# Altium integrated library ON Semi Zener Diodes.IntLib: 1366 symbols (part 5 of 29)
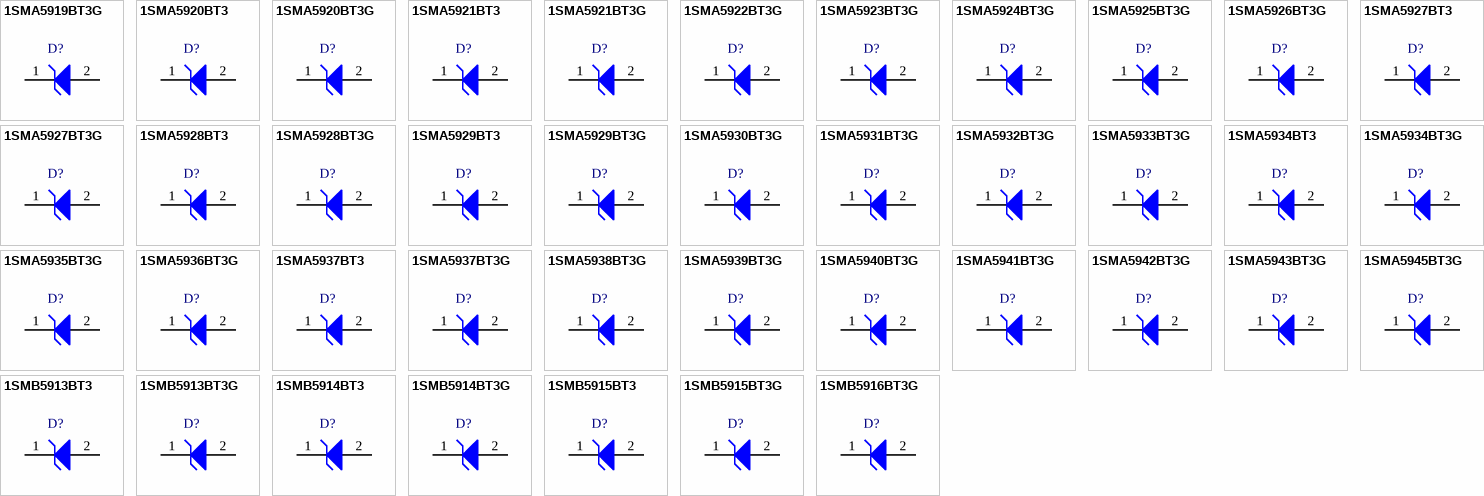
[diagram p48: symbols 1SMA5919BT3G to 1SMB5916BT3G]

## 1SMA5936BT3G
designator D?
1.5 W Zener Voltage Regulator, 2-Pin SMA, Pb-Free, Tape and Reel; Manufacturer: On Semiconductor; PartNumber: 1SMA5936BT3G; VZ Typ (V): 30; DatasheetVersion: Rev. 8; PackageVersion: Rev. F, 11/2008; PackageReference: SMA-2-403D-02_F; PackageDescription: 2-Pin Small Molded Package, J-Bend Lead, Body 2.605 x 4.315 mm; Supplier 1: Digi-Key; Supplier Part Number 1: 1SMA5936BT3GOSTR-ND; Supplier 2: Digi-Key; Supplier Part Number 2: 1SMA5936BT3GOSCT-ND; Supplier 3: Digi-Key; Supplier Part Number 3: 1SMA5936BT3GOSDKR-ND; Supplier 4: Farnell; Supplier Part Number 4: 1431153; Supplier 5: Farnell; Supplier Part Number 5: 1431153RL; Supplier 6: Newark; Supplier Part Number 6: 71J9200; Supplier 7: Mouser; Supplier Part Number 7: 863-1SMA5936BT3G; Packing: Tape and Reel; RoHS: Pb-Free; Mounting Technology: Surface Mount; ComponentLink1Description: Manufacturer URL; ComponentLink1URL: http://www.onsemi.com/; ComponentLink2Description: Datasheet; ComponentLink2URL: http://www.onsemi.com/pub_link/Collateral/1SMA5913BT3-D.PDF; ComponentLink3Description: Package Specification; ComponentLink3URL: http://www.onsemi.com/pub_link/Collateral/1SMA5913BT3-D.PDF
footprint ONSC-SMA-2-403D-02_F_V (Molded, 2-Leads, Body 4.32x2.6mm)
pins: 1 K, 2 A

## 1SMA5937BT3
designator D?
1.5 W Zener Voltage Regulator, 2-Pin SMA, Tape and Reel; Manufacturer: On Semiconductor; PartNumber: 1SMA5937BT3; VZ Typ (V): 33; DatasheetVersion: Rev. 8; PackageVersion: Rev. F, 11/2008; PackageReference: SMA-2-403D-02_F; PackageDescription: 2-Pin Small Molded Package, J-Bend Lead, Body 2.605 x 4.315 mm; Packing: Tape and Reel; Mounting Technology: Surface Mount; ComponentLink1Description: Manufacturer URL; ComponentLink1URL: http://www.onsemi.com/; ComponentLink2Description: Datasheet; ComponentLink2URL: http://www.onsemi.com/pub_link/Collateral/1SMA5913BT3-D.PDF; ComponentLink3Description: Package Specification; ComponentLink3URL: http://www.onsemi.com/pub_link/Collateral/1SMA5913BT3-D.PDF
footprint ONSC-SMA-2-403D-02_F_V (Molded, 2-Leads, Body 4.32x2.6mm)
pins: 1 K, 2 A

## 1SMA5937BT3G
designator D?
1.5 W Zener Voltage Regulator, 2-Pin SMA, Pb-Free, Tape and Reel; Manufacturer: On Semiconductor; PartNumber: 1SMA5937BT3G; VZ Typ (V): 33; DatasheetVersion: Rev. 8; PackageVersion: Rev. F, 11/2008; PackageReference: SMA-2-403D-02_F; PackageDescription: 2-Pin Small Molded Package, J-Bend Lead, Body 2.605 x 4.315 mm; Supplier 1: Digi-Key; Supplier Part Number 1: 1SMA5937BT3GOSTR-ND; Supplier 2: Digi-Key; Supplier Part Number 2: 1SMA5937BT3GOSCT-ND; Supplier 3: Digi-Key; Supplier Part Number 3: 1SMA5937BT3GOSDKR-ND; Supplier 4: Farnell; Supplier Part Number 4: 1431154RL; Supplier 5: Farnell; Supplier Part Number 5: 1431154; Supplier 6: Newark; Supplier Part Number 6: 71J9201; Supplier 7: Mouser; Supplier Part Number 7: 863-1SMA5937BT3G; Packing: Tape and Reel; RoHS: Pb-Free; Mounting Technology: Surface Mount; ComponentLink1Description: Manufacturer URL; ComponentLink1URL: http://www.onsemi.com/; ComponentLink2Description: Datasheet; ComponentLink2URL: http://www.onsemi.com/pub_link/Collateral/1SMA5913BT3-D.PDF; ComponentLink3Description: Package Specification; ComponentLink3URL: http://www.onsemi.com/pub_link/Collateral/1SMA5913BT3-D.PDF
footprint ONSC-SMA-2-403D-02_F_V (Molded, 2-Leads, Body 4.32x2.6mm)
pins: 1 K, 2 A

## 1SMA5938BT3G
designator D?
1.5 W Zener Voltage Regulator, 2-Pin SMA, Pb-Free, Tape and Reel; Manufacturer: On Semiconductor; PartNumber: 1SMA5938BT3G; VZ Typ (V): 36; DatasheetVersion: Rev. 8; PackageVersion: Rev. F, 11/2008; PackageReference: SMA-2-403D-02_F; PackageDescription: 2-Pin Small Molded Package, J-Bend Lead, Body 2.605 x 4.315 mm; Supplier 1: Digi-Key; Supplier Part Number 1: 1SMA5938BT3GOSTR-ND; Supplier 2: Digi-Key; Supplier Part Number 2: 1SMA5938BT3GOSCT-ND; Supplier 3: Digi-Key; Supplier Part Number 3: 1SMA5938BT3GOSDKR-ND; Supplier 4: Farnell; Supplier Part Number 4: 1651575RL; Supplier 5: Farnell; Supplier Part Number 5: 1651575; Supplier 6: Newark; Supplier Part Number 6: 26K5260; Supplier 7: Mouser; Supplier Part Number 7: 863-1SMA5938BT3G; Packing: Tape and Reel; RoHS: Pb-Free; Mounting Technology: Surface Mount; ComponentLink1Description: Manufacturer URL; ComponentLink1URL: http://www.onsemi.com/; ComponentLink2Description: Datasheet; ComponentLink2URL: http://www.onsemi.com/pub_link/Collateral/1SMA5913BT3-D.PDF; ComponentLink3Description: Package Specification; ComponentLink3URL: http://www.onsemi.com/pub_link/Collateral/1SMA5913BT3-D.PDF
footprint ONSC-SMA-2-403D-02_F_V (Molded, 2-Leads, Body 4.32x2.6mm)
pins: 1 K, 2 A

## 1SMA5939BT3G
designator D?
1.5 W Zener Voltage Regulator, 2-Pin SMA, Pb-Free, Tape and Reel; Manufacturer: On Semiconductor; PartNumber: 1SMA5939BT3G; VZ Typ (V): 39; DatasheetVersion: Rev. 8; PackageVersion: Rev. F, 11/2008; PackageReference: SMA-2-403D-02_F; PackageDescription: 2-Pin Small Molded Package, J-Bend Lead, Body 2.605 x 4.315 mm; Supplier 1: Digi-Key; Supplier Part Number 1: 1SMA5939BT3GOSTR-ND; Supplier 2: Digi-Key; Supplier Part Number 2: 1SMA5939BT3GOSCT-ND; Supplier 3: Digi-Key; Supplier Part Number 3: 1SMA5939BT3GOSDKR-ND; Supplier 4: Farnell; Supplier Part Number 4: 1324195; Supplier 5: Newark; Supplier Part Number 5: 83K8786; Supplier 6: Mouser; Supplier Part Number 6: 863-1SMA5939BT3G; Packing: Tape and Reel; RoHS: Pb-Free; Mounting Technology: Surface Mount; ComponentLink1Description: Manufacturer URL; ComponentLink1URL: http://www.onsemi.com/; ComponentLink2Description: Datasheet; ComponentLink2URL: http://www.onsemi.com/pub_link/Collateral/1SMA5913BT3-D.PDF; ComponentLink3Description: Package Specification; ComponentLink3URL: http://www.onsemi.com/pub_link/Collateral/1SMA5913BT3-D.PDF
footprint ONSC-SMA-2-403D-02_F_V (Molded, 2-Leads, Body 4.32x2.6mm)
pins: 1 K, 2 A

## 1SMA5940BT3G
designator D?
1.5 W Zener Voltage Regulator, 2-Pin SMA, Pb-Free, Tape and Reel; Manufacturer: On Semiconductor; PartNumber: 1SMA5940BT3G; VZ Typ (V): 43; DatasheetVersion: Rev. 8; PackageVersion: Rev. F, 11/2008; PackageReference: SMA-2-403D-02_F; PackageDescription: 2-Pin Small Molded Package, J-Bend Lead, Body 2.605 x 4.315 mm; Supplier 1: Digi-Key; Supplier Part Number 1: 1SMA5940BT3GOSTR-ND; Supplier 2: Digi-Key; Supplier Part Number 2: 1SMA5940BT3GOSCT-ND; Supplier 3: Digi-Key; Supplier Part Number 3: 1SMA5940BT3GOSDKR-ND; Supplier 4: Farnell; Supplier Part Number 4: 1887114; Supplier 5: Newark; Supplier Part Number 5: 09R9816; Supplier 6: Mouser; Supplier Part Number 6: 863-1SMA5940BT3G; Packing: Tape and Reel; RoHS: Pb-Free; Mounting Technology: Surface Mount; ComponentLink1Description: Manufacturer URL; ComponentLink1URL: http://www.onsemi.com/; ComponentLink2Description: Datasheet; ComponentLink2URL: http://www.onsemi.com/pub_link/Collateral/1SMA5913BT3-D.PDF; ComponentLink3Description: Package Specification; ComponentLink3URL: http://www.onsemi.com/pub_link/Collateral/1SMA5913BT3-D.PDF
footprint ONSC-SMA-2-403D-02_F_V (Molded, 2-Leads, Body 4.32x2.6mm)
pins: 1 K, 2 A

## 1SMA5941BT3G
designator D?
1.5 W Zener Voltage Regulator, 2-Pin SMA, Pb-Free, Tape and Reel; Manufacturer: On Semiconductor; PartNumber: 1SMA5941BT3G; VZ Typ (V): 47; DatasheetVersion: Rev. 8; PackageVersion: Rev. F, 11/2008; PackageReference: SMA-2-403D-02_F; PackageDescription: 2-Pin Small Molded Package, J-Bend Lead, Body 2.605 x 4.315 mm; Supplier 1: Digi-Key; Supplier Part Number 1: 1SMA5941BT3GOSTR-ND; Supplier 2: Digi-Key; Supplier Part Number 2: 1SMA5941BT3GOSCT-ND; Supplier 3: Digi-Key; Supplier Part Number 3: 1SMA5941BT3GOSDKR-ND; Supplier 4: Newark; Supplier Part Number 4: 09R9817; Supplier 5: Newark; Supplier Part Number 5: 42K3075; Supplier 6: Mouser; Supplier Part Number 6: 863-1SMA5941BT3G; Packing: Tape and Reel; RoHS: Pb-Free; Mounting Technology: Surface Mount; ComponentLink1Description: Manufacturer URL; ComponentLink1URL: http://www.onsemi.com/; ComponentLink2Description: Datasheet; ComponentLink2URL: http://www.onsemi.com/pub_link/Collateral/1SMA5913BT3-D.PDF; ComponentLink3Description: Package Specification; ComponentLink3URL: http://www.onsemi.com/pub_link/Collateral/1SMA5913BT3-D.PDF
footprint ONSC-SMA-2-403D-02_F_V (Molded, 2-Leads, Body 4.32x2.6mm)
pins: 1 K, 2 A

## 1SMA5942BT3G
designator D?
1.5 W Zener Voltage Regulator, 2-Pin SMA, Pb-Free, Tape and Reel; Manufacturer: On Semiconductor; PartNumber: 1SMA5942BT3G; VZ Typ (V): 51; DatasheetVersion: Rev. 8; PackageVersion: Rev. F, 11/2008; PackageReference: SMA-2-403D-02_F; PackageDescription: 2-Pin Small Molded Package, J-Bend Lead, Body 2.605 x 4.315 mm; Supplier 1: Digi-Key; Supplier Part Number 1: 1SMA5942BT3GOSTR-ND; Supplier 2: Digi-Key; Supplier Part Number 2: 1SMA5942BT3GOSCT-ND; Supplier 3: Digi-Key; Supplier Part Number 3: 1SMA5942BT3GOSDKR-ND; Supplier 4: Newark; Supplier Part Number 4: 42K3076; Supplier 5: Mouser; Supplier Part Number 5: 863-1SMA5942BT3G; Packing: Tape and Reel; RoHS: Pb-Free; Mounting Technology: Surface Mount; ComponentLink1Description: Manufacturer URL; ComponentLink1URL: http://www.onsemi.com/; ComponentLink2Description: Datasheet; ComponentLink2URL: http://www.onsemi.com/pub_link/Collateral/1SMA5913BT3-D.PDF; ComponentLink3Description: Package Specification; ComponentLink3URL: http://www.onsemi.com/pub_link/Collateral/1SMA5913BT3-D.PDF
footprint ONSC-SMA-2-403D-02_F_V (Molded, 2-Leads, Body 4.32x2.6mm)
pins: 1 K, 2 A

## 1SMA5943BT3G
designator D?
1.5 W Zener Voltage Regulator, 2-Pin SMA, Pb-Free, Tape and Reel; Manufacturer: On Semiconductor; PartNumber: 1SMA5943BT3G; VZ Typ (V): 56; DatasheetVersion: Rev. 8; PackageVersion: Rev. F, 11/2008; PackageReference: SMA-2-403D-02_F; PackageDescription: 2-Pin Small Molded Package, J-Bend Lead, Body 2.605 x 4.315 mm; Supplier 1: Digi-Key; Supplier Part Number 1: 1SMA5943BT3GOSTR-ND; Supplier 2: Digi-Key; Supplier Part Number 2: 1SMA5943BT3GOSCT-ND; Supplier 3: Digi-Key; Supplier Part Number 3: 1SMA5943BT3GOSDKR-ND; Supplier 4: Farnell; Supplier Part Number 4: 1147840; Supplier 5: Newark; Supplier Part Number 5: 45J2423; Supplier 6: Mouser; Supplier Part Number 6: 863-1SMA5943BT3G; Packing: Tape and Reel; RoHS: Pb-Free; Mounting Technology: Surface Mount; ComponentLink1Description: Manufacturer URL; ComponentLink1URL: http://www.onsemi.com/; ComponentLink2Description: Datasheet; ComponentLink2URL: http://www.onsemi.com/pub_link/Collateral/1SMA5913BT3-D.PDF; ComponentLink3Description: Package Specification; ComponentLink3URL: http://www.onsemi.com/pub_link/Collateral/1SMA5913BT3-D.PDF
footprint ONSC-SMA-2-403D-02_F_V (Molded, 2-Leads, Body 4.32x2.6mm)
pins: 1 K, 2 A

## 1SMA5945BT3G
designator D?
1.5 W Zener Voltage Regulator, 2-Pin SMA, Pb-Free, Tape and Reel; Manufacturer: On Semiconductor; PartNumber: 1SMA5945BT3G; VZ Typ (V): 68; DatasheetVersion: Rev. 8; PackageVersion: Rev. F, 11/2008; PackageReference: SMA-2-403D-02_F; PackageDescription: 2-Pin Small Molded Package, J-Bend Lead, Body 2.605 x 4.315 mm; Supplier 1: Digi-Key; Supplier Part Number 1: 1SMA5945BT3GOSTR-ND; Supplier 2: Digi-Key; Supplier Part Number 2: 1SMA5945BT3GOSCT-ND; Supplier 3: Digi-Key; Supplier Part Number 3: 1SMA5945BT3GOSDKR-ND; Supplier 4: Farnell; Supplier Part Number 4: 1364098; Supplier 5: Newark; Supplier Part Number 5: 26K5261; Supplier 6: Mouser; Supplier Part Number 6: 863-1SMA5945BT3G; Packing: Tape and Reel; RoHS: Pb-Free; Mounting Technology: Surface Mount; ComponentLink1Description: Manufacturer URL; ComponentLink1URL: http://www.onsemi.com/; ComponentLink2Description: Datasheet; ComponentLink2URL: http://www.onsemi.com/pub_link/Collateral/1SMA5913BT3-D.PDF; ComponentLink3Description: Package Specification; ComponentLink3URL: http://www.onsemi.com/pub_link/Collateral/1SMA5913BT3-D.PDF
footprint ONSC-SMA-2-403D-02_F_V (Molded, 2-Leads, Body 4.32x2.6mm)
pins: 1 K, 2 A

## 1SMB5913BT3
designator D?
3 W Zener Voltage Regulator, 2-Pin SMB, Tape and Reel; Manufacturer: On Semiconductor; PartNumber: 1SMB5913BT3; VZ Typ (V): 3.3; DatasheetVersion: Rev. 8; PackageVersion: Rev. H, 05/2011; PackageReference: SMB-2-403A-03_H; PackageDescription: 2-Pin Small Molded Package, J-Bend Lead, Body 4.33 x 3.625 mm; Supplier 1: Digi-Key; Supplier Part Number 1: 1SMB5913BT3OSCT-ND; Supplier 2: Digi-Key; Supplier Part Number 2: 1SMB5913BT3OSDKR-ND; Packing: Tape and Reel; Mounting Technology: Surface Mount; ComponentLink1Description: Manufacturer URL; ComponentLink1URL: http://www.onsemi.com/; ComponentLink2Description: Datasheet; ComponentLink2URL: http://www.onsemi.com/pub_link/Collateral/1SMB5913BT3-D.PDF; ComponentLink3Description: Package Specification; ComponentLink3URL: http://www.onsemi.com/pub_link/Collateral/1SMB5913BT3-D.PDF
footprint ONSC-SMB-2-403A-03_H_V (Molded, 2-Leads, Body 4.6x3.95mm)
pins: 1 K, 2 A

## 1SMB5913BT3G
designator D?
3 W Zener Voltage Regulator, 2-Pin SMB, Pb-Free, Tape and Reel; Manufacturer: On Semiconductor; PartNumber: 1SMB5913BT3G; VZ Typ (V): 3.3; DatasheetVersion: Rev. 8; PackageVersion: Rev. H, 05/2011; PackageReference: SMB-2-403A-03_H; PackageDescription: 2-Pin Small Molded Package, J-Bend Lead, Body 4.33 x 3.625 mm; Supplier 1: Digi-Key; Supplier Part Number 1: 1SMB5913BT3GOSTR-ND; Supplier 2: Digi-Key; Supplier Part Number 2: 1SMB5913BT3GOSCT-ND; Supplier 3: Digi-Key; Supplier Part Number 3: 1SMB5913BT3GOSDKR-ND; Supplier 4: Farnell; Supplier Part Number 4: 1431155RL; Supplier 5: Farnell; Supplier Part Number 5: 1431155; Supplier 6: Newark; Supplier Part Number 6: 88H5165; Supplier 7: Newark; Supplier Part Number 7: 02P5806; Supplier 8: Mouser; Supplier Part Number 8: 863-1SMB5913BT3G; Packing: Tape and Reel; RoHS: Pb-Free; Mounting Technology: Surface Mount; ComponentLink1Description: Manufacturer URL; ComponentLink1URL: http://www.onsemi.com/; ComponentLink2Description: Datasheet; ComponentLink2URL: http://www.onsemi.com/pub_link/Collateral/1SMB5913BT3-D.PDF; ComponentLink3Description: Package Specification; ComponentLink3URL: http://www.onsemi.com/pub_link/Collateral/1SMB5913BT3-D.PDF
footprint ONSC-SMB-2-403A-03_H_V (Molded, 2-Leads, Body 4.6x3.95mm)
pins: 1 K, 2 A

## 1SMB5914BT3
designator D?
3 W Zener Voltage Regulator, 2-Pin SMB, Tape and Reel; Manufacturer: On Semiconductor; PartNumber: 1SMB5914BT3; VZ Typ (V): 3.6; DatasheetVersion: Rev. 8; PackageVersion: Rev. H, 05/2011; PackageReference: SMB-2-403A-03_H; PackageDescription: 2-Pin Small Molded Package, J-Bend Lead, Body 4.33 x 3.625 mm; Supplier 1: Digi-Key; Supplier Part Number 1: 1SMB5914BT3OSCT-ND; Supplier 2: Digi-Key; Supplier Part Number 2: 1SMB5914BT3OSDKR-ND; Packing: Tape and Reel; Mounting Technology: Surface Mount; ComponentLink1Description: Manufacturer URL; ComponentLink1URL: http://www.onsemi.com/; ComponentLink2Description: Datasheet; ComponentLink2URL: http://www.onsemi.com/pub_link/Collateral/1SMB5913BT3-D.PDF; ComponentLink3Description: Package Specification; ComponentLink3URL: http://www.onsemi.com/pub_link/Collateral/1SMB5913BT3-D.PDF
footprint ONSC-SMB-2-403A-03_H_V (Molded, 2-Leads, Body 4.6x3.95mm)
pins: 1 K, 2 A

## 1SMB5914BT3G
designator D?
3 W Zener Voltage Regulator, 2-Pin SMB, Pb-Free, Tape and Reel; Manufacturer: On Semiconductor; PartNumber: 1SMB5914BT3G; VZ Typ (V): 3.6; DatasheetVersion: Rev. 8; PackageVersion: Rev. H, 05/2011; PackageReference: SMB-2-403A-03_H; PackageDescription: 2-Pin Small Molded Package, J-Bend Lead, Body 4.33 x 3.625 mm; Supplier 1: Digi-Key; Supplier Part Number 1: 1SMB5914BT3GOSTR-ND; Supplier 2: Digi-Key; Supplier Part Number 2: 1SMB5914BT3GOSCT-ND; Supplier 3: Digi-Key; Supplier Part Number 3: 1SMB5914BT3GOSDKR-ND; Supplier 4: Farnell; Supplier Part Number 4: 1431156; Supplier 5: Farnell; Supplier Part Number 5: 1431156RL; Supplier 6: Newark; Supplier Part Number 6: 71J9212; Supplier 7: Mouser; Supplier Part Number 7: 863-1SMB5914BT3G; Packing: Tape and Reel; RoHS: Pb-Free; Mounting Technology: Surface Mount; ComponentLink1Description: Manufacturer URL; ComponentLink1URL: http://www.onsemi.com/; ComponentLink2Description: Datasheet; ComponentLink2URL: http://www.onsemi.com/pub_link/Collateral/1SMB5913BT3-D.PDF; ComponentLink3Description: Package Specification; ComponentLink3URL: http://www.onsemi.com/pub_link/Collateral/1SMB5913BT3-D.PDF
footprint ONSC-SMB-2-403A-03_H_V (Molded, 2-Leads, Body 4.6x3.95mm)
pins: 1 K, 2 A

## 1SMB5915BT3
designator D?
3 W Zener Voltage Regulator, 2-Pin SMB, Tape and Reel; Manufacturer: On Semiconductor; PartNumber: 1SMB5915BT3; VZ Typ (V): 3.9; DatasheetVersion: Rev. 8; PackageVersion: Rev. H, 05/2011; PackageReference: SMB-2-403A-03_H; PackageDescription: 2-Pin Small Molded Package, J-Bend Lead, Body 4.33 x 3.625 mm; Supplier 1: Digi-Key; Supplier Part Number 1: 1SMB5915BT3OSCT-ND; Supplier 2: Digi-Key; Supplier Part Number 2: 1SMB5915BT3OSDKR-ND; Packing: Tape and Reel; Mounting Technology: Surface Mount; ComponentLink1Description: Manufacturer URL; ComponentLink1URL: http://www.onsemi.com/; ComponentLink2Description: Datasheet; ComponentLink2URL: http://www.onsemi.com/pub_link/Collateral/1SMB5913BT3-D.PDF; ComponentLink3Description: Package Specification; ComponentLink3URL: http://www.onsemi.com/pub_link/Collateral/1SMB5913BT3-D.PDF
footprint ONSC-SMB-2-403A-03_H_V (Molded, 2-Leads, Body 4.6x3.95mm)
pins: 1 K, 2 A

## 1SMB5915BT3G
designator D?
3 W Zener Voltage Regulator, 2-Pin SMB, Pb-Free, Tape and Reel; Manufacturer: On Semiconductor; PartNumber: 1SMB5915BT3G; VZ Typ (V): 3.9; DatasheetVersion: Rev. 8; PackageVersion: Rev. H, 05/2011; PackageReference: SMB-2-403A-03_H; PackageDescription: 2-Pin Small Molded Package, J-Bend Lead, Body 4.33 x 3.625 mm; Supplier 1: Digi-Key; Supplier Part Number 1: 1SMB5915BT3GOSTR-ND; Supplier 2: Digi-Key; Supplier Part Number 2: 1SMB5915BT3GOSCT-ND; Supplier 3: Digi-Key; Supplier Part Number 3: 1SMB5915BT3GOSDKR-ND; Supplier 4: Farnell; Supplier Part Number 4: 1431157; Supplier 5: Farnell; Supplier Part Number 5: 1431157RL; Supplier 6: Newark; Supplier Part Number 6: 71J9213; Supplier 7: Mouser; Supplier Part Number 7: 863-1SMB5915BT3G; Packing: Tape and Reel; RoHS: Pb-Free; Mounting Technology: Surface Mount; ComponentLink1Description: Manufacturer URL; ComponentLink1URL: http://www.onsemi.com/; ComponentLink2Description: Datasheet; ComponentLink2URL: http://www.onsemi.com/pub_link/Collateral/1SMB5913BT3-D.PDF; ComponentLink3Description: Package Specification; ComponentLink3URL: http://www.onsemi.com/pub_link/Collateral/1SMB5913BT3-D.PDF
footprint ONSC-SMB-2-403A-03_H_V (Molded, 2-Leads, Body 4.6x3.95mm)
pins: 1 K, 2 A

## 1SMB5916BT3G
designator D?
3 W Zener Voltage Regulator, 2-Pin SMB, Pb-Free, Tape and Reel; Manufacturer: On Semiconductor; PartNumber: 1SMB5916BT3G; VZ Typ (V): 4.3; DatasheetVersion: Rev. 8; PackageVersion: Rev. H, 05/2011; PackageReference: SMB-2-403A-03_H; PackageDescription: 2-Pin Small Molded Package, J-Bend Lead, Body 4.33 x 3.625 mm; Supplier 1: Digi-Key; Supplier Part Number 1: 1SMB5916BT3GOSTR-ND; Supplier 2: Digi-Key; Supplier Part Number 2: 1SMB5916BT3GOSCT-ND; Supplier 3: Digi-Key; Supplier Part Number 3: 1SMB5916BT3GOSDKR-ND; Supplier 4: Farnell; Supplier Part Number 4: 2101829; Supplier 5: Newark; Supplier Part Number 5: 71J9214; Supplier 6: Mouser; Supplier Part Number 6: 863-1SMB5916BT3G; Packing: Tape and Reel; RoHS: Pb-Free; Mounting Technology: Surface Mount; ComponentLink1Description: Manufacturer URL; ComponentLink1URL: http://www.onsemi.com/; ComponentLink2Description: Datasheet; ComponentLink2URL: http://www.onsemi.com/pub_link/Collateral/1SMB5913BT3-D.PDF; ComponentLink3Description: Package Specification; ComponentLink3URL: http://www.onsemi.com/pub_link/Collateral/1SMB5913BT3-D.PDF
footprint ONSC-SMB-2-403A-03_H_V (Molded, 2-Leads, Body 4.6x3.95mm)
pins: 1 K, 2 A

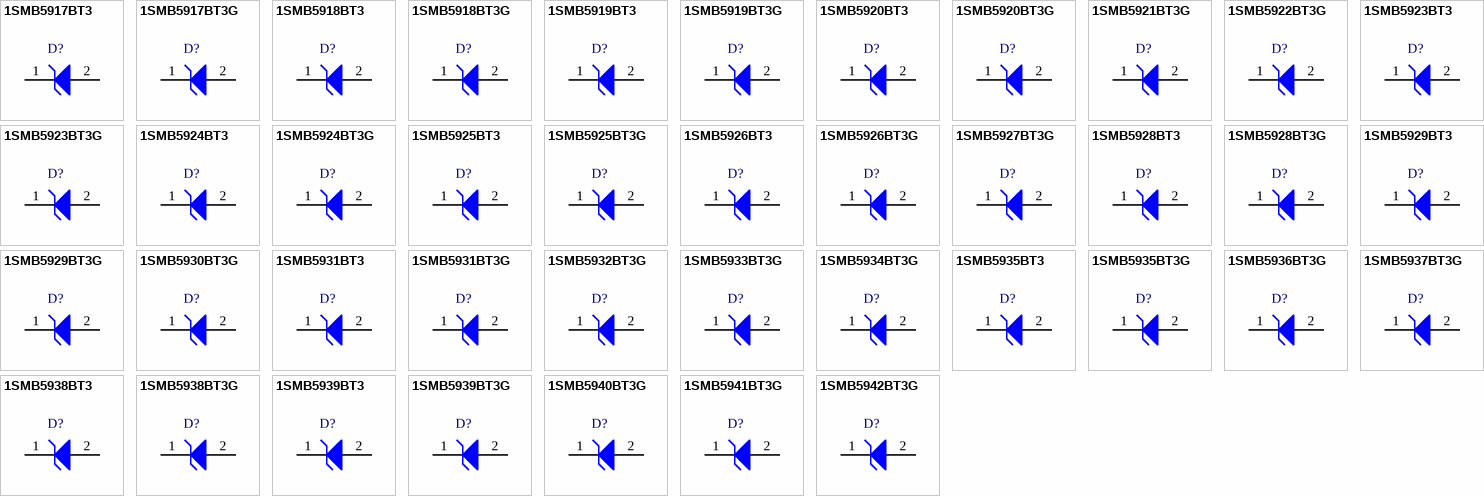
[diagram p5: symbols 1SMB5917BT3 to 1SMB5942BT3G]

## 1SMB5917BT3
designator D?
3 W Zener Voltage Regulator, 2-Pin SMB, Tape and Reel; Manufacturer: On Semiconductor; PartNumber: 1SMB5917BT3; VZ Typ (V): 4.7; DatasheetVersion: Rev. 8; PackageVersion: Rev. H, 05/2011; PackageReference: SMB-2-403A-03_H; PackageDescription: 2-Pin Small Molded Package, J-Bend Lead, Body 4.33 x 3.625 mm; Supplier 1: Digi-Key; Supplier Part Number 1: 1SMB5917BT3OSCT-ND; Supplier 2: Digi-Key; Supplier Part Number 2: 1SMB5917BT3OSDKR-ND; Packing: Tape and Reel; Mounting Technology: Surface Mount; ComponentLink1Description: Manufacturer URL; ComponentLink1URL: http://www.onsemi.com/; ComponentLink2Description: Datasheet; ComponentLink2URL: http://www.onsemi.com/pub_link/Collateral/1SMB5913BT3-D.PDF; ComponentLink3Description: Package Specification; ComponentLink3URL: http://www.onsemi.com/pub_link/Collateral/1SMB5913BT3-D.PDF
footprint ONSC-SMB-2-403A-03_H_V (Molded, 2-Leads, Body 4.6x3.95mm)
pins: 1 K, 2 A

## 1SMB5917BT3G
designator D?
3 W Zener Voltage Regulator, 2-Pin SMB, Pb-Free, Tape and Reel; Manufacturer: On Semiconductor; PartNumber: 1SMB5917BT3G; VZ Typ (V): 4.7; DatasheetVersion: Rev. 8; PackageVersion: Rev. H, 05/2011; PackageReference: SMB-2-403A-03_H; PackageDescription: 2-Pin Small Molded Package, J-Bend Lead, Body 4.33 x 3.625 mm; Supplier 1: Digi-Key; Supplier Part Number 1: 1SMB5917BT3GOSTR-ND; Supplier 2: Digi-Key; Supplier Part Number 2: 1SMB5917BT3GOSCT-ND; Supplier 3: Digi-Key; Supplier Part Number 3: 1SMB5917BT3GOSDKR-ND; Supplier 4: Farnell; Supplier Part Number 4: 1431159; Supplier 5: Farnell; Supplier Part Number 5: 1431159RL; Supplier 6: Newark; Supplier Part Number 6: 71J9215; Supplier 7: Mouser; Supplier Part Number 7: 863-1SMB5917BT3G; Packing: Tape and Reel; RoHS: Pb-Free; Mounting Technology: Surface Mount; ComponentLink1Description: Manufacturer URL; ComponentLink1URL: http://www.onsemi.com/; ComponentLink2Description: Datasheet; ComponentLink2URL: http://www.onsemi.com/pub_link/Collateral/1SMB5913BT3-D.PDF; ComponentLink3Description: Package Specification; ComponentLink3URL: http://www.onsemi.com/pub_link/Collateral/1SMB5913BT3-D.PDF
footprint ONSC-SMB-2-403A-03_H_V (Molded, 2-Leads, Body 4.6x3.95mm)
pins: 1 K, 2 A

## 1SMB5918BT3
designator D?
3 W Zener Voltage Regulator, 2-Pin SMB, Tape and Reel; Manufacturer: On Semiconductor; PartNumber: 1SMB5918BT3; VZ Typ (V): 5.1; DatasheetVersion: Rev. 8; PackageVersion: Rev. H, 05/2011; PackageReference: SMB-2-403A-03_H; PackageDescription: 2-Pin Small Molded Package, J-Bend Lead, Body 4.33 x 3.625 mm; Supplier 1: Digi-Key; Supplier Part Number 1: 1SMB5918BT3OSTR-ND; Supplier 2: Digi-Key; Supplier Part Number 2: 1SMB5918BT3OSCT-ND; Supplier 3: Digi-Key; Supplier Part Number 3: 1SMB5918BT3OSDKR-ND; Packing: Tape and Reel; Mounting Technology: Surface Mount; ComponentLink1Description: Manufacturer URL; ComponentLink1URL: http://www.onsemi.com/; ComponentLink2Description: Datasheet; ComponentLink2URL: http://www.onsemi.com/pub_link/Collateral/1SMB5913BT3-D.PDF; ComponentLink3Description: Package Specification; ComponentLink3URL: http://www.onsemi.com/pub_link/Collateral/1SMB5913BT3-D.PDF
footprint ONSC-SMB-2-403A-03_H_V (Molded, 2-Leads, Body 4.6x3.95mm)
pins: 1 K, 2 A

## 1SMB5918BT3G
designator D?
3 W Zener Voltage Regulator, 2-Pin SMB, Pb-Free, Tape and Reel; Manufacturer: On Semiconductor; PartNumber: 1SMB5918BT3G; VZ Typ (V): 5.1; DatasheetVersion: Rev. 8; PackageVersion: Rev. H, 05/2011; PackageReference: SMB-2-403A-03_H; PackageDescription: 2-Pin Small Molded Package, J-Bend Lead, Body 4.33 x 3.625 mm; Supplier 1: Digi-Key; Supplier Part Number 1: 1SMB5918BT3GOSTR-ND; Supplier 2: Digi-Key; Supplier Part Number 2: 1SMB5918BT3GOSCT-ND; Supplier 3: Digi-Key; Supplier Part Number 3: 1SMB5918BT3GOSDKR-ND; Supplier 4: Farnell; Supplier Part Number 4: 1431161; Supplier 5: Farnell; Supplier Part Number 5: 1431161RL; Supplier 6: Farnell; Supplier Part Number 6: 2370854; Supplier 7: Newark; Supplier Part Number 7: 67R1405; Supplier 8: Newark; Supplier Part Number 8: 45J2448; Supplier 9: Mouser; Supplier Part Number 9: 863-1SMB5918BT3G; Packing: Tape and Reel; RoHS: Pb-Free; Mounting Technology: Surface Mount; ComponentLink1Description: Manufacturer URL; ComponentLink1URL: http://www.onsemi.com/; ComponentLink2Description: Datasheet; ComponentLink2URL: http://www.onsemi.com/pub_link/Collateral/1SMB5913BT3-D.PDF; ComponentLink3Description: Package Specification; ComponentLink3URL: http://www.onsemi.com/pub_link/Collateral/1SMB5913BT3-D.PDF
footprint ONSC-SMB-2-403A-03_H_V (Molded, 2-Leads, Body 4.6x3.95mm)
pins: 1 K, 2 A

## 1SMB5919BT3
designator D?
3 W Zener Voltage Regulator, 2-Pin SMB, Tape and Reel; Manufacturer: On Semiconductor; PartNumber: 1SMB5919BT3; VZ Typ (V): 5.6; DatasheetVersion: Rev. 8; PackageVersion: Rev. H, 05/2011; PackageReference: SMB-2-403A-03_H; PackageDescription: 2-Pin Small Molded Package, J-Bend Lead, Body 4.33 x 3.625 mm; Supplier 1: Digi-Key; Supplier Part Number 1: 1SMB5919BT3OSCT-ND; Supplier 2: Digi-Key; Supplier Part Number 2: 1SMB5919BT3OSDKR-ND; Packing: Tape and Reel; Mounting Technology: Surface Mount; ComponentLink1Description: Manufacturer URL; ComponentLink1URL: http://www.onsemi.com/; ComponentLink2Description: Datasheet; ComponentLink2URL: http://www.onsemi.com/pub_link/Collateral/1SMB5913BT3-D.PDF; ComponentLink3Description: Package Specification; ComponentLink3URL: http://www.onsemi.com/pub_link/Collateral/1SMB5913BT3-D.PDF
footprint ONSC-SMB-2-403A-03_H_V (Molded, 2-Leads, Body 4.6x3.95mm)
pins: 1 K, 2 A

## 1SMB5919BT3G
designator D?
3 W Zener Voltage Regulator, 2-Pin SMB, Pb-Free, Tape and Reel; Manufacturer: On Semiconductor; PartNumber: 1SMB5919BT3G; VZ Typ (V): 5.6; DatasheetVersion: Rev. 8; PackageVersion: Rev. H, 05/2011; PackageReference: SMB-2-403A-03_H; PackageDescription: 2-Pin Small Molded Package, J-Bend Lead, Body 4.33 x 3.625 mm; Supplier 1: Digi-Key; Supplier Part Number 1: 1SMB5919BT3GOSTR-ND; Supplier 2: Digi-Key; Supplier Part Number 2: 1SMB5919BT3GOSCT-ND; Supplier 3: Digi-Key; Supplier Part Number 3: 1SMB5919BT3GOSDKR-ND; Supplier 4: Farnell; Supplier Part Number 4: 1431162; Supplier 5: Farnell; Supplier Part Number 5: 1431162RL; Supplier 6: Newark; Supplier Part Number 6: 45J2449; Supplier 7: Newark; Supplier Part Number 7: 67R1406; Supplier 8: Mouser; Supplier Part Number 8: 863-1SMB5919BT3G; Packing: Tape and Reel; RoHS: Pb-Free; Mounting Technology: Surface Mount; ComponentLink1Description: Manufacturer URL; ComponentLink1URL: http://www.onsemi.com/; ComponentLink2Description: Datasheet; ComponentLink2URL: http://www.onsemi.com/pub_link/Collateral/1SMB5913BT3-D.PDF; ComponentLink3Description: Package Specification; ComponentLink3URL: http://www.onsemi.com/pub_link/Collateral/1SMB5913BT3-D.PDF
footprint ONSC-SMB-2-403A-03_H_V (Molded, 2-Leads, Body 4.6x3.95mm)
pins: 1 K, 2 A

## 1SMB5920BT3
designator D?
3 W Zener Voltage Regulator, 2-Pin SMB, Tape and Reel; Manufacturer: On Semiconductor; PartNumber: 1SMB5920BT3; VZ Typ (V): 6.2; DatasheetVersion: Rev. 8; PackageVersion: Rev. H, 05/2011; PackageReference: SMB-2-403A-03_H; PackageDescription: 2-Pin Small Molded Package, J-Bend Lead, Body 4.33 x 3.625 mm; Supplier 1: Digi-Key; Supplier Part Number 1: 1SMB5920BT3OSCT-ND; Supplier 2: Digi-Key; Supplier Part Number 2: 1SMB5920BT3OSDKR-ND; Packing: Tape and Reel; Mounting Technology: Surface Mount; ComponentLink1Description: Manufacturer URL; ComponentLink1URL: http://www.onsemi.com/; ComponentLink2Description: Datasheet; ComponentLink2URL: http://www.onsemi.com/pub_link/Collateral/1SMB5913BT3-D.PDF; ComponentLink3Description: Package Specification; ComponentLink3URL: http://www.onsemi.com/pub_link/Collateral/1SMB5913BT3-D.PDF
footprint ONSC-SMB-2-403A-03_H_V (Molded, 2-Leads, Body 4.6x3.95mm)
pins: 1 K, 2 A

## 1SMB5920BT3G
designator D?
3 W Zener Voltage Regulator, 2-Pin SMB, Pb-Free, Tape and Reel; Manufacturer: On Semiconductor; PartNumber: 1SMB5920BT3G; VZ Typ (V): 6.2; DatasheetVersion: Rev. 8; PackageVersion: Rev. H, 05/2011; PackageReference: SMB-2-403A-03_H; PackageDescription: 2-Pin Small Molded Package, J-Bend Lead, Body 4.33 x 3.625 mm; Supplier 1: Digi-Key; Supplier Part Number 1: 1SMB5920BT3GOSTR-ND; Supplier 2: Digi-Key; Supplier Part Number 2: 1SMB5920BT3GOSCT-ND; Supplier 3: Digi-Key; Supplier Part Number 3: 1SMB5920BT3GOSDKR-ND; Supplier 4: Farnell; Supplier Part Number 4: 1431163RL; Supplier 5: Farnell; Supplier Part Number 5: 2370855; Supplier 6: Newark; Supplier Part Number 6: 45J2450; Supplier 7: Newark; Supplier Part Number 7: 67R1407; Supplier 8: Mouser; Supplier Part Number 8: 863-1SMB5920BT3G; Packing: Tape and Reel; RoHS: Pb-Free; Mounting Technology: Surface Mount; ComponentLink1Description: Manufacturer URL; ComponentLink1URL: http://www.onsemi.com/; ComponentLink2Description: Datasheet; ComponentLink2URL: http://www.onsemi.com/pub_link/Collateral/1SMB5913BT3-D.PDF; ComponentLink3Description: Package Specification; ComponentLink3URL: http://www.onsemi.com/pub_link/Collateral/1SMB5913BT3-D.PDF
footprint ONSC-SMB-2-403A-03_H_V (Molded, 2-Leads, Body 4.6x3.95mm)
pins: 1 K, 2 A

## 1SMB5921BT3G
designator D?
3 W Zener Voltage Regulator, 2-Pin SMB, Pb-Free, Tape and Reel; Manufacturer: On Semiconductor; PartNumber: 1SMB5921BT3G; VZ Typ (V): 6.8; DatasheetVersion: Rev. 8; PackageVersion: Rev. H, 05/2011; PackageReference: SMB-2-403A-03_H; PackageDescription: 2-Pin Small Molded Package, J-Bend Lead, Body 4.33 x 3.625 mm; Supplier 1: Digi-Key; Supplier Part Number 1: 1SMB5921BT3GOSTR-ND; Supplier 2: Digi-Key; Supplier Part Number 2: 1SMB5921BT3GOSCT-ND; Supplier 3: Digi-Key; Supplier Part Number 3: 1SMB5921BT3GOSDKR-ND; Supplier 4: Farnell; Supplier Part Number 4: 1431164; Supplier 5: Farnell; Supplier Part Number 5: 1431164RL; Supplier 6: Newark; Supplier Part Number 6: 88H5166; Supplier 7: Mouser; Supplier Part Number 7: 863-1SMB5921BT3G; Packing: Tape and Reel; RoHS: Pb-Free; Mounting Technology: Surface Mount; ComponentLink1Description: Manufacturer URL; ComponentLink1URL: http://www.onsemi.com/; ComponentLink2Description: Datasheet; ComponentLink2URL: http://www.onsemi.com/pub_link/Collateral/1SMB5913BT3-D.PDF; ComponentLink3Description: Package Specification; ComponentLink3URL: http://www.onsemi.com/pub_link/Collateral/1SMB5913BT3-D.PDF
footprint ONSC-SMB-2-403A-03_H_V (Molded, 2-Leads, Body 4.6x3.95mm)
pins: 1 K, 2 A

## 1SMB5922BT3G
designator D?
3 W Zener Voltage Regulator, 2-Pin SMB, Pb-Free, Tape and Reel; Manufacturer: On Semiconductor; PartNumber: 1SMB5922BT3G; VZ Typ (V): 7.5; DatasheetVersion: Rev. 8; PackageVersion: Rev. H, 05/2011; PackageReference: SMB-2-403A-03_H; PackageDescription: 2-Pin Small Molded Package, J-Bend Lead, Body 4.33 x 3.625 mm; Supplier 1: Digi-Key; Supplier Part Number 1: 1SMB5922BT3GOSTR-ND; Supplier 2: Digi-Key; Supplier Part Number 2: 1SMB5922BT3GOSCT-ND; Supplier 3: Digi-Key; Supplier Part Number 3: 1SMB5922BT3GOSDKR-ND; Supplier 4: Farnell; Supplier Part Number 4: 1431165RL; Supplier 5: Farnell; Supplier Part Number 5: 1431165; Supplier 6: Newark; Supplier Part Number 6: 71J9216; Supplier 7: Mouser; Supplier Part Number 7: 863-1SMB5922BT3G; Packing: Tape and Reel; RoHS: Pb-Free; Mounting Technology: Surface Mount; ComponentLink1Description: Manufacturer URL; ComponentLink1URL: http://www.onsemi.com/; ComponentLink2Description: Datasheet; ComponentLink2URL: http://www.onsemi.com/pub_link/Collateral/1SMB5913BT3-D.PDF; ComponentLink3Description: Package Specification; ComponentLink3URL: http://www.onsemi.com/pub_link/Collateral/1SMB5913BT3-D.PDF
footprint ONSC-SMB-2-403A-03_H_V (Molded, 2-Leads, Body 4.6x3.95mm)
pins: 1 K, 2 A

## 1SMB5923BT3
designator D?
3 W Zener Voltage Regulator, 2-Pin SMB, Tape and Reel; Manufacturer: On Semiconductor; PartNumber: 1SMB5923BT3; VZ Typ (V): 8.2; DatasheetVersion: Rev. 8; PackageVersion: Rev. H, 05/2011; PackageReference: SMB-2-403A-03_H; PackageDescription: 2-Pin Small Molded Package, J-Bend Lead, Body 4.33 x 3.625 mm; Supplier 1: Digi-Key; Supplier Part Number 1: 1SMB5923BT3OSCT-ND; Supplier 2: Digi-Key; Supplier Part Number 2: 1SMB5923BT3OSDKR-ND; Packing: Tape and Reel; Mounting Technology: Surface Mount; ComponentLink1Description: Manufacturer URL; ComponentLink1URL: http://www.onsemi.com/; ComponentLink2Description: Datasheet; ComponentLink2URL: http://www.onsemi.com/pub_link/Collateral/1SMB5913BT3-D.PDF; ComponentLink3Description: Package Specification; ComponentLink3URL: http://www.onsemi.com/pub_link/Collateral/1SMB5913BT3-D.PDF
footprint ONSC-SMB-2-403A-03_H_V (Molded, 2-Leads, Body 4.6x3.95mm)
pins: 1 K, 2 A

## 1SMB5923BT3G
designator D?
3 W Zener Voltage Regulator, 2-Pin SMB, Pb-Free, Tape and Reel; Manufacturer: On Semiconductor; PartNumber: 1SMB5923BT3G; VZ Typ (V): 8.2; DatasheetVersion: Rev. 8; PackageVersion: Rev. H, 05/2011; PackageReference: SMB-2-403A-03_H; PackageDescription: 2-Pin Small Molded Package, J-Bend Lead, Body 4.33 x 3.625 mm; Supplier 1: Digi-Key; Supplier Part Number 1: 1SMB5923BT3GOSTR-ND; Supplier 2: Digi-Key; Supplier Part Number 2: 1SMB5923BT3GOSCT-ND; Supplier 3: Digi-Key; Supplier Part Number 3: 1SMB5923BT3GOSDKR-ND; Supplier 4: Farnell; Supplier Part Number 4: 1431166; Supplier 5: Farnell; Supplier Part Number 5: 1431166RL; Supplier 6: Newark; Supplier Part Number 6: 45J2451; Supplier 7: Mouser; Supplier Part Number 7: 863-1SMB5923BT3G; Packing: Tape and Reel; RoHS: Pb-Free; Mounting Technology: Surface Mount; ComponentLink1Description: Manufacturer URL; ComponentLink1URL: http://www.onsemi.com/; ComponentLink2Description: Datasheet; ComponentLink2URL: http://www.onsemi.com/pub_link/Collateral/1SMB5913BT3-D.PDF; ComponentLink3Description: Package Specification; ComponentLink3URL: http://www.onsemi.com/pub_link/Collateral/1SMB5913BT3-D.PDF
footprint ONSC-SMB-2-403A-03_H_V (Molded, 2-Leads, Body 4.6x3.95mm)
pins: 1 K, 2 A

## 1SMB5924BT3
designator D?
3 W Zener Voltage Regulator, 2-Pin SMB, Tape and Reel; Manufacturer: On Semiconductor; PartNumber: 1SMB5924BT3; VZ Typ (V): 9.1; DatasheetVersion: Rev. 8; PackageVersion: Rev. H, 05/2011; PackageReference: SMB-2-403A-03_H; PackageDescription: 2-Pin Small Molded Package, J-Bend Lead, Body 4.33 x 3.625 mm; Supplier 1: Digi-Key; Supplier Part Number 1: 1SMB5924BT3OSCT-ND; Supplier 2: Digi-Key; Supplier Part Number 2: 1SMB5924BT3OSDKR-ND; Packing: Tape and Reel; Mounting Technology: Surface Mount; ComponentLink1Description: Manufacturer URL; ComponentLink1URL: http://www.onsemi.com/; ComponentLink2Description: Datasheet; ComponentLink2URL: http://www.onsemi.com/pub_link/Collateral/1SMB5913BT3-D.PDF; ComponentLink3Description: Package Specification; ComponentLink3URL: http://www.onsemi.com/pub_link/Collateral/1SMB5913BT3-D.PDF
footprint ONSC-SMB-2-403A-03_H_V (Molded, 2-Leads, Body 4.6x3.95mm)
pins: 1 K, 2 A

## 1SMB5924BT3G
designator D?
3 W Zener Voltage Regulator, 2-Pin SMB, Pb-Free, Tape and Reel; Manufacturer: On Semiconductor; PartNumber: 1SMB5924BT3G; VZ Typ (V): 9.1; DatasheetVersion: Rev. 8; PackageVersion: Rev. H, 05/2011; PackageReference: SMB-2-403A-03_H; PackageDescription: 2-Pin Small Molded Package, J-Bend Lead, Body 4.33 x 3.625 mm; Supplier 1: Digi-Key; Supplier Part Number 1: 1SMB5924BT3GOSTR-ND; Supplier 2: Digi-Key; Supplier Part Number 2: 1SMB5924BT3GOSCT-ND; Supplier 3: Digi-Key; Supplier Part Number 3: 1SMB5924BT3GOSDKR-ND; Supplier 4: Newark; Supplier Part Number 4: 71J9217; Supplier 5: Mouser; Supplier Part Number 5: 863-1SMB5924BT3G; Packing: Tape and Reel; RoHS: Pb-Free; Mounting Technology: Surface Mount; ComponentLink1Description: Manufacturer URL; ComponentLink1URL: http://www.onsemi.com/; ComponentLink2Description: Datasheet; ComponentLink2URL: http://www.onsemi.com/pub_link/Collateral/1SMB5913BT3-D.PDF; ComponentLink3Description: Package Specification; ComponentLink3URL: http://www.onsemi.com/pub_link/Collateral/1SMB5913BT3-D.PDF
footprint ONSC-SMB-2-403A-03_H_V (Molded, 2-Leads, Body 4.6x3.95mm)
pins: 1 K, 2 A

## 1SMB5925BT3
designator D?
3 W Zener Voltage Regulator, 2-Pin SMB, Tape and Reel; Manufacturer: On Semiconductor; PartNumber: 1SMB5925BT3; VZ Typ (V): 10; DatasheetVersion: Rev. 8; PackageVersion: Rev. H, 05/2011; PackageReference: SMB-2-403A-03_H; PackageDescription: 2-Pin Small Molded Package, J-Bend Lead, Body 4.33 x 3.625 mm; Supplier 1: Digi-Key; Supplier Part Number 1: 1SMB5925BT3OSCT-ND; Supplier 2: Digi-Key; Supplier Part Number 2: 1SMB5925BT3OSDKR-ND; Packing: Tape and Reel; Mounting Technology: Surface Mount; ComponentLink1Description: Manufacturer URL; ComponentLink1URL: http://www.onsemi.com/; ComponentLink2Description: Datasheet; ComponentLink2URL: http://www.onsemi.com/pub_link/Collateral/1SMB5913BT3-D.PDF; ComponentLink3Description: Package Specification; ComponentLink3URL: http://www.onsemi.com/pub_link/Collateral/1SMB5913BT3-D.PDF
footprint ONSC-SMB-2-403A-03_H_V (Molded, 2-Leads, Body 4.6x3.95mm)
pins: 1 K, 2 A

## 1SMB5925BT3G
designator D?
3 W Zener Voltage Regulator, 2-Pin SMB, Pb-Free, Tape and Reel; Manufacturer: On Semiconductor; PartNumber: 1SMB5925BT3G; VZ Typ (V): 10; DatasheetVersion: Rev. 8; PackageVersion: Rev. H, 05/2011; PackageReference: SMB-2-403A-03_H; PackageDescription: 2-Pin Small Molded Package, J-Bend Lead, Body 4.33 x 3.625 mm; Supplier 1: Digi-Key; Supplier Part Number 1: 1SMB5925BT3GOSTR-ND; Supplier 2: Digi-Key; Supplier Part Number 2: 1SMB5925BT3GOSCT-ND; Supplier 3: Digi-Key; Supplier Part Number 3: 1SMB5925BT3GOSDKR-ND; Supplier 4: Farnell; Supplier Part Number 4: 2317730; Supplier 5: Farnell; Supplier Part Number 5: 1431168RL; Supplier 6: Farnell; Supplier Part Number 6: 1431168; Supplier 7: Newark; Supplier Part Number 7: 71J9218; Supplier 8: Newark; Supplier Part Number 8: 67R1408; Supplier 9: Mouser; Supplier Part Number 9: 863-1SMB5925BT3G; Packing: Tape and Reel; RoHS: Pb-Free; Mounting Technology: Surface Mount; ComponentLink1Description: Manufacturer URL; ComponentLink1URL: http://www.onsemi.com/; ComponentLink2Description: Datasheet; ComponentLink2URL: http://www.onsemi.com/pub_link/Collateral/1SMB5913BT3-D.PDF; ComponentLink3Description: Package Specification; ComponentLink3URL: http://www.onsemi.com/pub_link/Collateral/1SMB5913BT3-D.PDF
footprint ONSC-SMB-2-403A-03_H_V (Molded, 2-Leads, Body 4.6x3.95mm)
pins: 1 K, 2 A

## 1SMB5926BT3
designator D?
3 W Zener Voltage Regulator, 2-Pin SMB, Tape and Reel; Manufacturer: On Semiconductor; PartNumber: 1SMB5926BT3; VZ Typ (V): 11; DatasheetVersion: Rev. 8; PackageVersion: Rev. H, 05/2011; PackageReference: SMB-2-403A-03_H; PackageDescription: 2-Pin Small Molded Package, J-Bend Lead, Body 4.33 x 3.625 mm; Packing: Tape and Reel; Mounting Technology: Surface Mount; ComponentLink1Description: Manufacturer URL; ComponentLink1URL: http://www.onsemi.com/; ComponentLink2Description: Datasheet; ComponentLink2URL: http://www.onsemi.com/pub_link/Collateral/1SMB5913BT3-D.PDF; ComponentLink3Description: Package Specification; ComponentLink3URL: http://www.onsemi.com/pub_link/Collateral/1SMB5913BT3-D.PDF
footprint ONSC-SMB-2-403A-03_H_V (Molded, 2-Leads, Body 4.6x3.95mm)
pins: 1 K, 2 A

## 1SMB5926BT3G
designator D?
3 W Zener Voltage Regulator, 2-Pin SMB, Pb-Free, Tape and Reel; Manufacturer: On Semiconductor; PartNumber: 1SMB5926BT3G; VZ Typ (V): 11; DatasheetVersion: Rev. 8; PackageVersion: Rev. H, 05/2011; PackageReference: SMB-2-403A-03_H; PackageDescription: 2-Pin Small Molded Package, J-Bend Lead, Body 4.33 x 3.625 mm; Supplier 1: Digi-Key; Supplier Part Number 1: 1SMB5926BT3GOSTR-ND; Supplier 2: Digi-Key; Supplier Part Number 2: 1SMB5926BT3GOSCT-ND; Supplier 3: Digi-Key; Supplier Part Number 3: 1SMB5926BT3GOSDKR-ND; Supplier 4: Farnell; Supplier Part Number 4: 1364590; Supplier 5: Newark; Supplier Part Number 5: 42K3095; Supplier 6: Mouser; Supplier Part Number 6: 863-1SMB5926BT3G; Packing: Tape and Reel; RoHS: Pb-Free; Mounting Technology: Surface Mount; ComponentLink1Description: Manufacturer URL; ComponentLink1URL: http://www.onsemi.com/; ComponentLink2Description: Datasheet; ComponentLink2URL: http://www.onsemi.com/pub_link/Collateral/1SMB5913BT3-D.PDF; ComponentLink3Description: Package Specification; ComponentLink3URL: http://www.onsemi.com/pub_link/Collateral/1SMB5913BT3-D.PDF
footprint ONSC-SMB-2-403A-03_H_V (Molded, 2-Leads, Body 4.6x3.95mm)
pins: 1 K, 2 A

## 1SMB5927BT3G
designator D?
3 W Zener Voltage Regulator, 2-Pin SMB, Pb-Free, Tape and Reel; Manufacturer: On Semiconductor; PartNumber: 1SMB5927BT3G; VZ Typ (V): 12; DatasheetVersion: Rev. 8; PackageVersion: Rev. H, 05/2011; PackageReference: SMB-2-403A-03_H; PackageDescription: 2-Pin Small Molded Package, J-Bend Lead, Body 4.33 x 3.625 mm; Supplier 1: Digi-Key; Supplier Part Number 1: 1SMB5927BT3GOSTR-ND; Supplier 2: Digi-Key; Supplier Part Number 2: 1SMB5927BT3GOSCT-ND; Supplier 3: Farnell; Supplier Part Number 3: 1431169RL; Supplier 4: Farnell; Supplier Part Number 4: 1431169; Supplier 5: Farnell; Supplier Part Number 5: 2368211; Supplier 6: Newark; Supplier Part Number 6: 45J2452; Supplier 7: Newark; Supplier Part Number 7: 67R1409; Supplier 8: Mouser; Supplier Part Number 8: 863-1SMB5927BT3G; Packing: Tape and Reel; RoHS: Pb-Free; Mounting Technology: Surface Mount; ComponentLink1Description: Manufacturer URL; ComponentLink1URL: http://www.onsemi.com/; ComponentLink2Description: Datasheet; ComponentLink2URL: http://www.onsemi.com/pub_link/Collateral/1SMB5913BT3-D.PDF; ComponentLink3Description: Package Specification; ComponentLink3URL: http://www.onsemi.com/pub_link/Collateral/1SMB5913BT3-D.PDF
footprint ONSC-SMB-2-403A-03_H_V (Molded, 2-Leads, Body 4.6x3.95mm)
pins: 1 K, 2 A

## 1SMB5928BT3
designator D?
3 W Zener Voltage Regulator, 2-Pin SMB, Tape and Reel; Manufacturer: On Semiconductor; PartNumber: 1SMB5928BT3; VZ Typ (V): 13; DatasheetVersion: Rev. 8; PackageVersion: Rev. H, 05/2011; PackageReference: SMB-2-403A-03_H; PackageDescription: 2-Pin Small Molded Package, J-Bend Lead, Body 4.33 x 3.625 mm; Supplier 1: Digi-Key; Supplier Part Number 1: 1SMB5928BT3OSCT-ND; Supplier 2: Digi-Key; Supplier Part Number 2: 1SMB5928BT3OSDKR-ND; Packing: Tape and Reel; Mounting Technology: Surface Mount; ComponentLink1Description: Manufacturer URL; ComponentLink1URL: http://www.onsemi.com/; ComponentLink2Description: Datasheet; ComponentLink2URL: http://www.onsemi.com/pub_link/Collateral/1SMB5913BT3-D.PDF; ComponentLink3Description: Package Specification; ComponentLink3URL: http://www.onsemi.com/pub_link/Collateral/1SMB5913BT3-D.PDF
footprint ONSC-SMB-2-403A-03_H_V (Molded, 2-Leads, Body 4.6x3.95mm)
pins: 1 K, 2 A

## 1SMB5928BT3G
designator D?
3 W Zener Voltage Regulator, 2-Pin SMB, Pb-Free, Tape and Reel; Manufacturer: On Semiconductor; PartNumber: 1SMB5928BT3G; VZ Typ (V): 13; DatasheetVersion: Rev. 8; PackageVersion: Rev. H, 05/2011; PackageReference: SMB-2-403A-03_H; PackageDescription: 2-Pin Small Molded Package, J-Bend Lead, Body 4.33 x 3.625 mm; Supplier 1: Digi-Key; Supplier Part Number 1: 1SMB5928BT3GOSTR-ND; Supplier 2: Digi-Key; Supplier Part Number 2: 1SMB5928BT3GOSCT-ND; Supplier 3: Digi-Key; Supplier Part Number 3: 1SMB5928BT3GOSDKR-ND; Supplier 4: Farnell; Supplier Part Number 4: 1431170; Supplier 5: Farnell; Supplier Part Number 5: 1431170RL; Supplier 6: Newark; Supplier Part Number 6: 59M4340; Supplier 7: Newark; Supplier Part Number 7: 42K3096; Supplier 8: Mouser; Supplier Part Number 8: 863-1SMB5928BT3G; Packing: Tape and Reel; RoHS: Pb-Free; Mounting Technology: Surface Mount; ComponentLink1Description: Manufacturer URL; ComponentLink1URL: http://www.onsemi.com/; ComponentLink2Description: Datasheet; ComponentLink2URL: http://www.onsemi.com/pub_link/Collateral/1SMB5913BT3-D.PDF; ComponentLink3Description: Package Specification; ComponentLink3URL: http://www.onsemi.com/pub_link/Collateral/1SMB5913BT3-D.PDF
footprint ONSC-SMB-2-403A-03_H_V (Molded, 2-Leads, Body 4.6x3.95mm)
pins: 1 K, 2 A

## 1SMB5929BT3
designator D?
3 W Zener Voltage Regulator, 2-Pin SMB, Tape and Reel; Manufacturer: On Semiconductor; PartNumber: 1SMB5929BT3; VZ Typ (V): 15; DatasheetVersion: Rev. 8; PackageVersion: Rev. H, 05/2011; PackageReference: SMB-2-403A-03_H; PackageDescription: 2-Pin Small Molded Package, J-Bend Lead, Body 4.33 x 3.625 mm; Supplier 1: Digi-Key; Supplier Part Number 1: 1SMB5929BT3OSCT-ND; Supplier 2: Digi-Key; Supplier Part Number 2: 1SMB5929BT3OSDKR-ND; Packing: Tape and Reel; Mounting Technology: Surface Mount; ComponentLink1Description: Manufacturer URL; ComponentLink1URL: http://www.onsemi.com/; ComponentLink2Description: Datasheet; ComponentLink2URL: http://www.onsemi.com/pub_link/Collateral/1SMB5913BT3-D.PDF; ComponentLink3Description: Package Specification; ComponentLink3URL: http://www.onsemi.com/pub_link/Collateral/1SMB5913BT3-D.PDF
footprint ONSC-SMB-2-403A-03_H_V (Molded, 2-Leads, Body 4.6x3.95mm)
pins: 1 K, 2 A

## 1SMB5929BT3G
designator D?
3 W Zener Voltage Regulator, 2-Pin SMB, Pb-Free, Tape and Reel; Manufacturer: On Semiconductor; PartNumber: 1SMB5929BT3G; VZ Typ (V): 15; DatasheetVersion: Rev. 8; PackageVersion: Rev. H, 05/2011; PackageReference: SMB-2-403A-03_H; PackageDescription: 2-Pin Small Molded Package, J-Bend Lead, Body 4.33 x 3.625 mm; Supplier 1: Digi-Key; Supplier Part Number 1: 1SMB5929BT3GOSTR-ND; Supplier 2: Digi-Key; Supplier Part Number 2: 1SMB5929BT3GOSCT-ND; Supplier 3: Digi-Key; Supplier Part Number 3: 1SMB5929BT3GOSDKR-ND; Supplier 4: Farnell; Supplier Part Number 4: 1459014RL; Supplier 5: Farnell; Supplier Part Number 5: 1459014; Supplier 6: Farnell; Supplier Part Number 6: 2370856; Supplier 7: Newark; Supplier Part Number 7: 45J2453; Supplier 8: Newark; Supplier Part Number 8: 67R1410; Supplier 9: Mouser; Supplier Part Number 9: 863-1SMB5929BT3G; Packing: Tape and Reel; RoHS: Pb-Free; Mounting Technology: Surface Mount; ComponentLink1Description: Manufacturer URL; ComponentLink1URL: http://www.onsemi.com/; ComponentLink2Description: Datasheet; ComponentLink2URL: http://www.onsemi.com/pub_link/Collateral/1SMB5913BT3-D.PDF; ComponentLink3Description: Package Specification; ComponentLink3URL: http://www.onsemi.com/pub_link/Collateral/1SMB5913BT3-D.PDF
footprint ONSC-SMB-2-403A-03_H_V (Molded, 2-Leads, Body 4.6x3.95mm)
pins: 1 K, 2 A

## 1SMB5930BT3G
designator D?
3 W Zener Voltage Regulator, 2-Pin SMB, Pb-Free, Tape and Reel; Manufacturer: On Semiconductor; PartNumber: 1SMB5930BT3G; VZ Typ (V): 16; DatasheetVersion: Rev. 8; PackageVersion: Rev. H, 05/2011; PackageReference: SMB-2-403A-03_H; PackageDescription: 2-Pin Small Molded Package, J-Bend Lead, Body 4.33 x 3.625 mm; Supplier 1: Digi-Key; Supplier Part Number 1: 1SMB5930BT3GOSTR-ND; Supplier 2: Digi-Key; Supplier Part Number 2: 1SMB5930BT3GOSCT-ND; Supplier 3: Digi-Key; Supplier Part Number 3: 1SMB5930BT3GOSDKR-ND; Supplier 4: Farnell; Supplier Part Number 4: 2133098; Supplier 5: Newark; Supplier Part Number 5: 45J2454; Supplier 6: Newark; Supplier Part Number 6: 10N9738; Supplier 7: Mouser; Supplier Part Number 7: 863-1SMB5930BT3G; Packing: Tape and Reel; RoHS: Pb-Free; Mounting Technology: Surface Mount; ComponentLink1Description: Manufacturer URL; ComponentLink1URL: http://www.onsemi.com/; ComponentLink2Description: Datasheet; ComponentLink2URL: http://www.onsemi.com/pub_link/Collateral/1SMB5913BT3-D.PDF; ComponentLink3Description: Package Specification; ComponentLink3URL: http://www.onsemi.com/pub_link/Collateral/1SMB5913BT3-D.PDF
footprint ONSC-SMB-2-403A-03_H_V (Molded, 2-Leads, Body 4.6x3.95mm)
pins: 1 K, 2 A

## 1SMB5931BT3
designator D?
3 W Zener Voltage Regulator, 2-Pin SMB, Tape and Reel; Manufacturer: On Semiconductor; PartNumber: 1SMB5931BT3; VZ Typ (V): 18; DatasheetVersion: Rev. 8; PackageVersion: Rev. H, 05/2011; PackageReference: SMB-2-403A-03_H; PackageDescription: 2-Pin Small Molded Package, J-Bend Lead, Body 4.33 x 3.625 mm; Supplier 1: Digi-Key; Supplier Part Number 1: 1SMB5931BT3OSCT-ND; Supplier 2: Digi-Key; Supplier Part Number 2: 1SMB5931BT3OSDKR-ND; Packing: Tape and Reel; Mounting Technology: Surface Mount; ComponentLink1Description: Manufacturer URL; ComponentLink1URL: http://www.onsemi.com/; ComponentLink2Description: Datasheet; ComponentLink2URL: http://www.onsemi.com/pub_link/Collateral/1SMB5913BT3-D.PDF; ComponentLink3Description: Package Specification; ComponentLink3URL: http://www.onsemi.com/pub_link/Collateral/1SMB5913BT3-D.PDF
footprint ONSC-SMB-2-403A-03_H_V (Molded, 2-Leads, Body 4.6x3.95mm)
pins: 1 K, 2 A

## 1SMB5931BT3G
designator D?
3 W Zener Voltage Regulator, 2-Pin SMB, Pb-Free, Tape and Reel; Manufacturer: On Semiconductor; PartNumber: 1SMB5931BT3G; VZ Typ (V): 18; DatasheetVersion: Rev. 8; PackageVersion: Rev. H, 05/2011; PackageReference: SMB-2-403A-03_H; PackageDescription: 2-Pin Small Molded Package, J-Bend Lead, Body 4.33 x 3.625 mm; Supplier 1: Digi-Key; Supplier Part Number 1: 1SMB5931BT3GOSTR-ND; Supplier 2: Digi-Key; Supplier Part Number 2: 1SMB5931BT3GOSCT-ND; Supplier 3: Digi-Key; Supplier Part Number 3: 1SMB5931BT3GOSDKR-ND; Supplier 4: Farnell; Supplier Part Number 4: 1431173; Supplier 5: Farnell; Supplier Part Number 5: 1431173RL; Supplier 6: Farnell; Supplier Part Number 6: 2370857; Supplier 7: Newark; Supplier Part Number 7: 67R1411; Supplier 8: Newark; Supplier Part Number 8: 45J2455; Supplier 9: Newark; Supplier Part Number 9: 59M4343; Supplier 10: Mouser; Supplier Part Number 10: 863-1SMB5931BT3G; Packing: Tape and Reel; RoHS: Pb-Free; Mounting Technology: Surface Mount; ComponentLink1Description: Manufacturer URL; ComponentLink1URL: http://www.onsemi.com/; ComponentLink2Description: Datasheet; ComponentLink2URL: http://www.onsemi.com/pub_link/Collateral/1SMB5913BT3-D.PDF; ComponentLink3Description: Package Specification; ComponentLink3URL: http://www.onsemi.com/pub_link/Collateral/1SMB5913BT3-D.PDF
footprint ONSC-SMB-2-403A-03_H_V (Molded, 2-Leads, Body 4.6x3.95mm)
pins: 1 K, 2 A